# EAGLE library part LIS3DE (library Tristan_Robitaille's_Library)
LIS3DE MEMS ultra-low-power high-performance 3-axis accelerometer Technical Specifications: Supply voltage: 1.71V to 3.6V Current consumption: 2uA Normal mode @ 1Hz ODR 2 interrupt lines Datasheet <http://www.st.com/content/ccc/resource/technical/document/datasheet/group3/10/aa/64/5a/f1/cc/49/7f/DM00066267/files/DM00066267.pdf/jcr:content/translations/en.DM00066267.pdf> Digi-Key part #: 497-13041-ND <https://www.digikey.ca/products/en?keywords=STM8L052C6> Mouser part #: 511-LIS3DETR <http://ca.mouser.com/ProductDetail/STMicroelectronics/LIS3DETR/?qs=%2fha2pyFadugaVvL%252bAkWmI5p2Bt5PjQaubTDgnBhxNC0%3d> Manufacturer part #: LIS3DETR
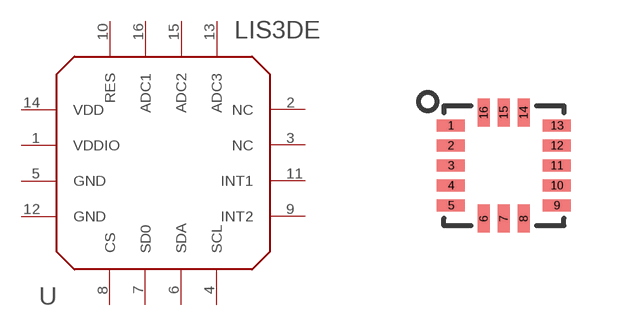
[diagram p28: symbol with the pads of LGA16; footprint LGA16]

Designator prefix U

## LIS3DE (DIGIKEY#: 497-16262-1-ND; MANF: LIS3DE MEMS Accelerometer; MANF#: LIS3DE; MOUSER#: 511-LIS3DETR)  [LGA16]
1  VDDIO  pwr
2  NC  nc
3  NC  nc
4  SCL
5  GND  pwr
6  SDA
7  SD0
8  CS
9  INT2  out
10  RES
11  INT1  out
12  GND  pwr
13  ADC3
14  VDD  pwr
15  ADC2
16  ADC1

## Footprint LGA16 (pad centres in mm)
smd 0.7 x 0.3: 1 -1.325,1; 2 -1.325,0.5; 3 -1.325,0; 4 -1.325,-0.5; 5 -1.325,-1; 9 1.325,-1; 10 1.325,-0.5; 11 1.325,0; 12 1.325,0.5; 13 1.325,1
smd 0.3 x 0.7: 6 -0.5,-1.325; 7 0,-1.325; 8 0.5,-1.325; 14 0.5,1.325; 15 0,1.325; 16 -0.5,1.325